# EAGLE library part W9501RC (library other)
8 way 0.237in SOIC to 0.3in DIL socket Winslow Straight Through Hole Mount 1.27 mm, 2.54 mm Pitch IC Socket Adapter, 8 Pin Female SOP to 8 Pin Male DIP Source: Datasheet <http://docs-europe.electrocomponents.com/webdocs/0ff4/0900766b80ff4d69.pdf>
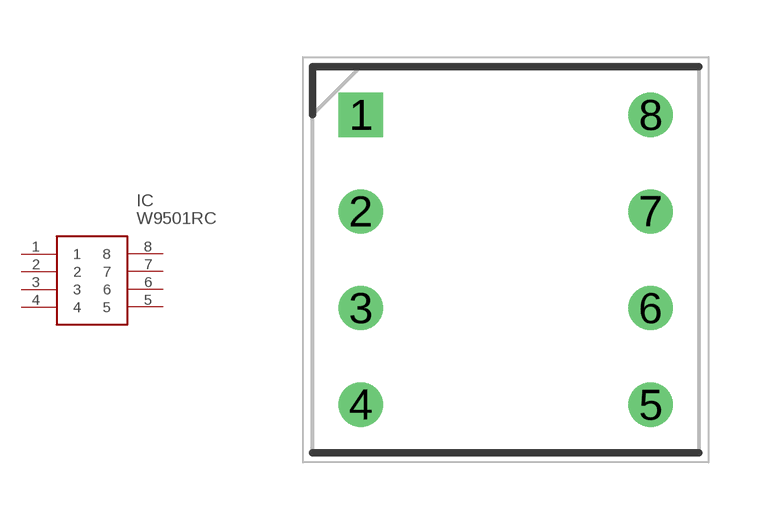
[diagram p9: symbol with the pads of DIPS762W46P254L1016H160Q8N; footprint DIPS762W46P254L1016H160Q8N]

Designator prefix IC

## W9501RC (ALLIED_NUMBER: R1002010; ALLIED_PRICE/STOCK: https://www.alliedelec.com/winslow-adaptics-w9501rc/R1002010/; ARROW_PART_NUMBER: W9501RC; ARROW_PRICE/STOCK: http://uk.rs-online.com/web/p/products/1582878; DESCRIPTION: 8 way 0.237in SOIC to 0.3in DIL socket Winslow Straight Through Hole Mount 1.27 mm, 2.54 mm Pitch IC Socket Adapter, 8 Pin Female SOP to 8 Pin Male DIP; HEIGHT: 1.6mm; MANUFACTURER_NAME: Winslow; MANUFACTURER_PART_NUMBER: W9501RC; RS_PART_NUMBER: 1582878; RS_PRICE/STOCK: http://uk.rs-online.com/web/p/products/1582878)  [DIPS762W46P254L1016H160Q8N]
1  1
2  2  in
3  3  in
4  4  pwr
5  5
6  6  out
7  7  pwr
8  8  pwr

## Footprint DIPS762W46P254L1016H160Q8N (pad centres in mm)
W30508TRC
drill 0.65 pad 1.05 square: 1 0,0
drill 0.65 pad 1.05: 2 0,-2.54; 3 0,-5.08; 4 0,-7.62; 5 7.62,-7.62; 6 7.62,-5.08; 7 7.62,-2.54; 8 7.62,0